# EAGLE library part DS1124 (library maxim)
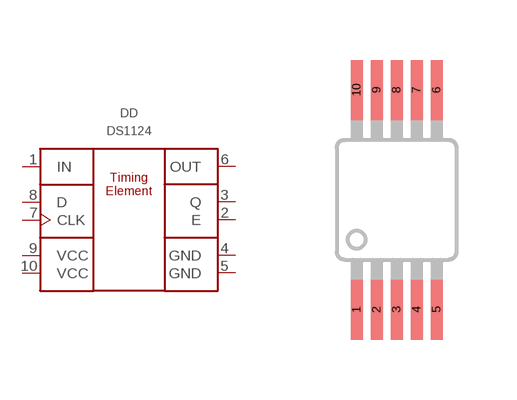
[diagram p0: symbol with the pads of 10-USOP; footprint 10-USOP]

Designator prefix DD

## DS1124U-25+  [10-USOP]
1  IN  in
2  E  in
3  Q  out
4  GND  pwr
5  GND  pwr
6  OUT  out
7  CLK  in
8  D  in
9  VCC  pwr
10  VCC  pwr

## DS1124U-25+T  [10-USOP]
Pads as for 10-USOP

## Footprint 10-USOP (pad centres in mm)
smd 0.3 x 1.5: 1 -1,-2.75; 2 -0.5,-2.75; 3 0,-2.75; 4 0.5,-2.75; 5 1,-2.75; 6 1,2.75; 7 0.5,2.75; 8 0,2.75; 9 -0.5,2.75; 10 -1,2.75